# Altium schematic symbol library LTC6820.SchLib: 1 symbol
Pins are listed as number, name and electrical type; pins without a type are passive.

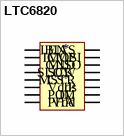
[diagram p0: symbol LTC6820]

## LTC6820
designator *
footprint SOP16P50_403X490X110L53X22N (Small Outline Pkg (SOP), 0.50 mm pitch; 16 pin, 4.039 mm L X 3.00 mm W X 1.10 mm H body)
pins: 1 EN, 2 MOSI, 3 MISO, 4 SCK, 5 CS, 6 Vdds, 7 POL (power), 8 PHA, 9 Vdd (power), 10 IM, 11 IP (power), 12 MSTR, 13 SLOW, 14 GND, 15 ICMP (power), 16 IBIAS (power)